# Altium footprint library KF128.PcbLib: 30 footprints (part 1 of 2)
Each footprint in its own frame and in the unit in brackets; x right, y up, seen from the top. Pads: shape width x height; smd on the part's side, far side on the other; paste and mask are expansions set on the pad; w line width, h text height; cw(c..) or ccw(c..) is an arc to the next point about the centre after c.
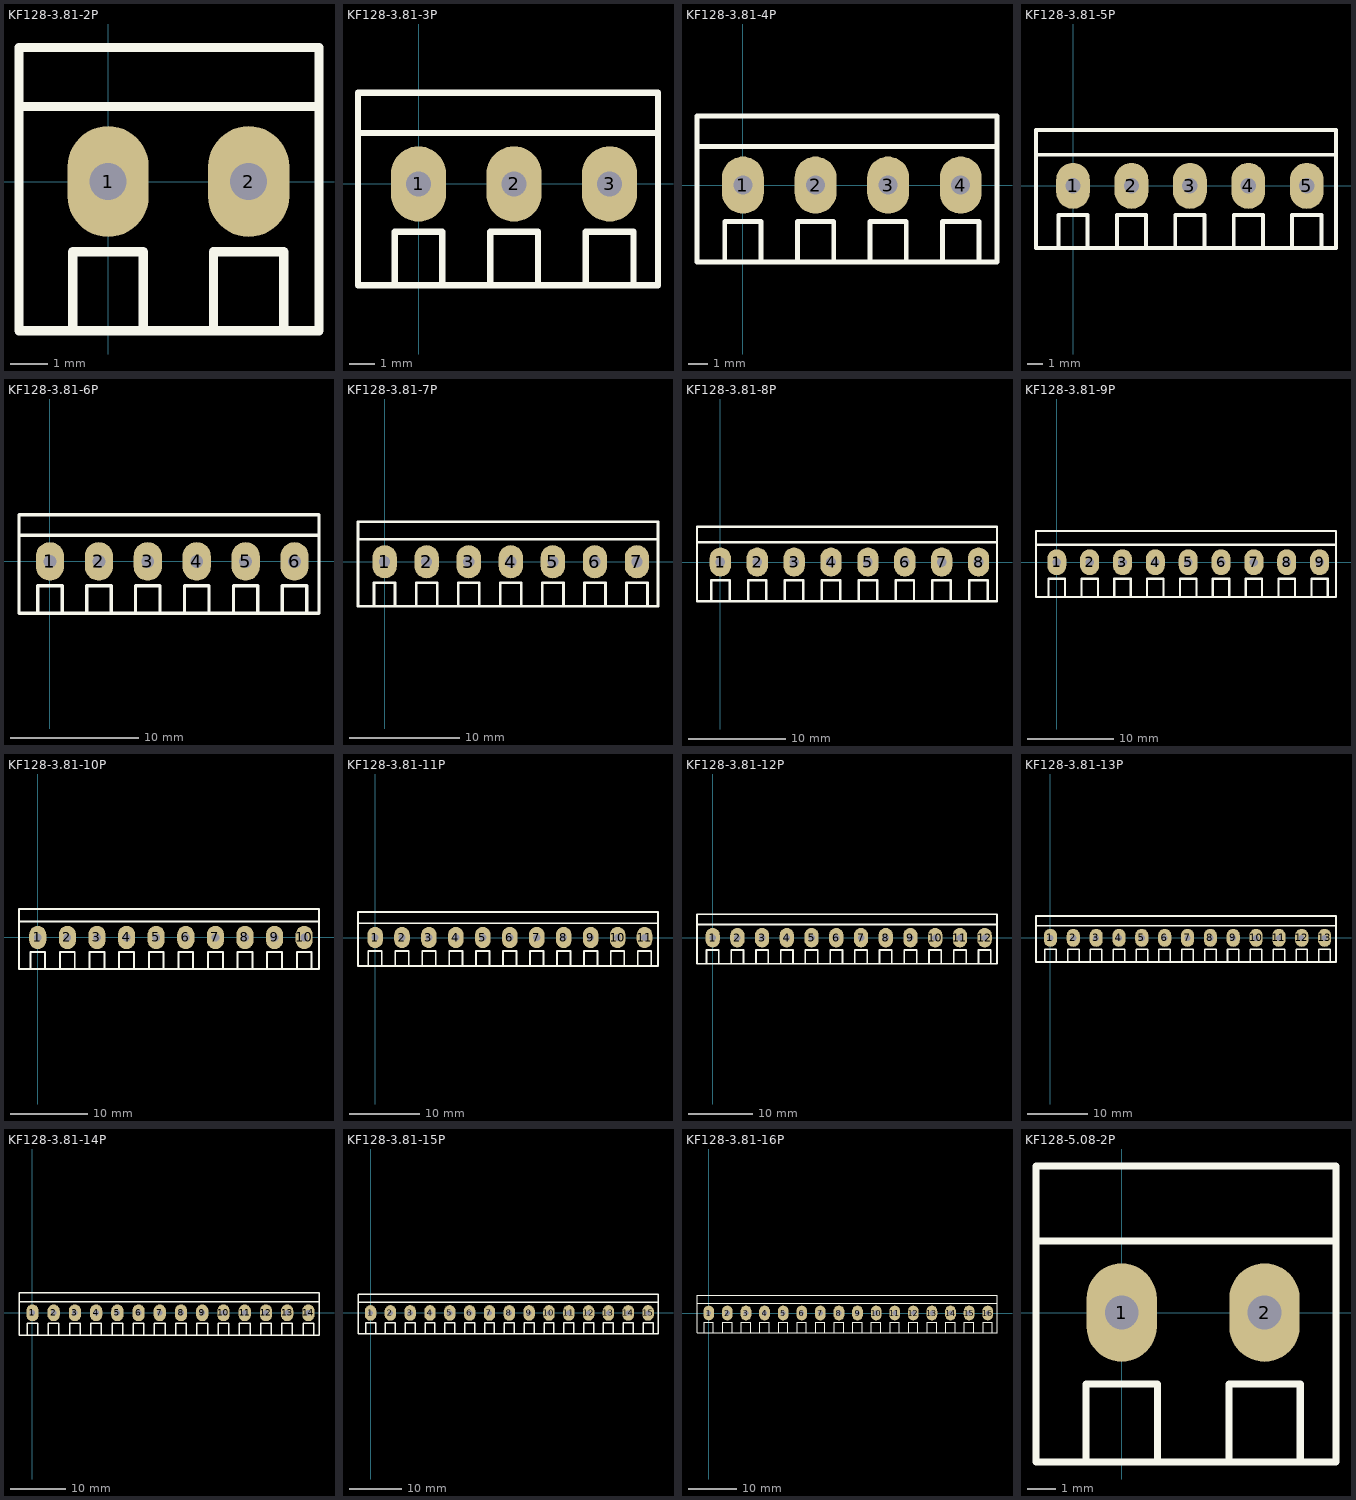
[diagram p0: the footprints below, top view; thin cyan lines are the x and y axes]

## KF128-3.81-2P [mm] "螺钉式接线端子，脚距3.81mm"
pads (2):
  oval 2.2x3 hole 1: 1(0,0) 2(3.81,0)
Top Overlay:
  lines w0.254: -2.413,2.032 5.715,2.032 ; -0.953,-4.039 -0.953,-1.905 0.953,-1.905 0.953,-4.039 ; 2.857,-4.039 2.857,-1.905 4.763,-1.905 4.763,-4.039 ; -2.413,-4.039 -2.413,3.632 5.715,3.632 5.715,-4.039 -2.413,-4.039
3D body "KF128-3.81.STEP": height 8.55, standoff -3.95, extent 1.397,-3.827 5.707,3.573
3D body "KF128-3.81.STEP": height 8.55, standoff -3.95, extent -2.413,-3.827 1.897,3.573

## KF128-3.81-3P [mm] "螺钉式接线端子，脚距3.81mm"
pads (3):
  oval 2.2x3 hole 1: 1(0,0) 2(3.81,0) 3(7.62,0)
Top Overlay:
  lines w0.254: -2.413,2.032 9.55,2.032 ; -0.953,-4.039 -0.953,-1.905 0.953,-1.905 0.953,-4.039 ; 2.857,-4.039 2.857,-1.905 4.763,-1.905 4.763,-4.039 ; 6.667,-4.039 6.667,-1.905 8.572,-1.905 8.572,-4.039 ; -2.413,-4.039 9.55,-4.039 9.55,3.632 -2.413,3.632 -2.413,-4.039
3D body "KF128-3.81.STEP": height 8.55, standoff -3.95, extent 5.207,-3.827 9.517,3.573
3D body "KF128-3.81.STEP": height 8.55, standoff -3.95, extent 1.397,-3.827 5.707,3.573
3D body "KF128-3.81.STEP": height 8.55, standoff -3.95, extent -2.413,-3.827 1.897,3.573

## KF128-3.81-4P [mm] "螺钉式接线端子，脚距3.81mm"
pads (4):
  oval 2.2x3 hole 1: 1(0,0) 2(3.81,0) 3(7.62,0) 4(11.43,0)
Top Overlay:
  lines w0.254: -2.413,2.032 13.335,2.032 ; -0.953,-4.039 -0.953,-1.905 0.953,-1.905 0.953,-4.039 ; 2.857,-4.039 2.857,-1.905 4.763,-1.905 4.763,-4.039 ; 6.667,-4.039 6.667,-1.905 8.572,-1.905 8.572,-4.039 ; 10.477,-4.039 10.477,-1.905 12.383,-1.905 12.383,-4.039 ; -2.413,-4.039 13.335,-4.039 13.335,3.632 -2.413,3.632 -2.413,-4.039
3D body "KF128-3.81.STEP": height 8.55, standoff -3.95, extent -2.413,-3.827 1.897,3.573
3D body "KF128-3.81.STEP": height 8.55, standoff -3.95, extent 1.397,-3.827 5.707,3.573
3D body "KF128-3.81.STEP": height 8.55, standoff -3.95, extent 5.207,-3.827 9.517,3.573
3D body "KF128-3.81.STEP": height 8.55, standoff -3.95, extent 9.017,-3.827 13.327,3.573

## KF128-3.81-5P [mm] "螺钉式接线端子，脚距3.81mm"
pads (5):
  oval 2.2x3 hole 1: 1(0,0) 2(3.81,0) 3(7.62,0) 4(11.43,0) 5(15.24,0)
Top Overlay:
  lines w0.254: -2.413,2.032 17.145,2.032 ; -0.953,-4.039 -0.953,-1.905 0.953,-1.905 0.953,-4.039 ; 2.857,-4.039 2.857,-1.905 4.763,-1.905 4.763,-4.039 ; 6.667,-4.039 6.667,-1.905 8.572,-1.905 8.572,-4.039 ; 10.477,-4.039 10.477,-1.905 12.383,-1.905 12.383,-4.039 ; 14.287,-4.039 14.287,-1.905 16.192,-1.905 16.192,-4.039 ; -2.413,-4.039 -2.413,3.632 17.145,3.632 17.145,-4.039 -2.413,-4.039
Mechanical 15:
  circle w0.05: c7.62,0 r0.35
  lines w0.05: 7.12,0 8.12,0 ; 7.62,-0.5 7.62,0.5
3D body "KF128-3.81.STEP": height 8.55, standoff -3.95, extent 9.017,-3.827 13.327,3.573
3D body "KF128-3.81.STEP": height 8.55, standoff -3.95, extent 12.827,-3.827 17.137,3.573
3D body "KF128-3.81.STEP": height 8.55, standoff -3.95, extent 5.207,-3.827 9.517,3.573
3D body "KF128-3.81.STEP": height 8.55, standoff -3.95, extent 1.397,-3.827 5.707,3.573
3D body "KF128-3.81.STEP": height 8.55, standoff -3.95, extent -2.413,-3.827 1.897,3.573

## KF128-3.81-6P [mm] "螺钉式接线端子，脚距3.81mm"
pads (6):
  oval 2.2x3 hole 1: 1(0,0) 2(3.81,0) 3(7.62,0) 4(11.43,0) 5(15.24,0) 6(19.05,0)
Top Overlay:
  lines w0.254: -2.413,2.032 20.955,2.032 ; -0.953,-4.039 -0.953,-1.905 0.953,-1.905 0.953,-4.039 ; 2.857,-4.039 2.857,-1.905 4.763,-1.905 4.763,-4.039 ; 6.667,-4.039 6.667,-1.905 8.572,-1.905 8.572,-4.039 ; 10.477,-4.039 10.477,-1.905 12.383,-1.905 12.383,-4.039 ; 14.287,-4.039 14.287,-1.905 16.192,-1.905 16.192,-4.039 ; 18.098,-4.039 18.098,-1.905 20.002,-1.905 20.002,-4.039 ; -2.413,-4.039 -2.413,3.632 20.955,3.632 20.955,-4.039 -2.413,-4.039
3D body "KF128-3.81.STEP": height 8.55, standoff -3.95, extent 9.017,-3.827 13.327,3.573
3D body "KF128-3.81.STEP": height 8.55, standoff -3.95, extent 12.827,-3.827 17.137,3.573
3D body "KF128-3.81.STEP": height 8.55, standoff -3.95, extent 16.637,-3.827 20.947,3.573
3D body "KF128-3.81.STEP": height 8.55, standoff -3.95, extent 5.207,-3.827 9.517,3.573
3D body "KF128-3.81.STEP": height 8.55, standoff -3.95, extent 1.397,-3.827 5.707,3.573
3D body "KF128-3.81.STEP": height 8.55, standoff -3.95, extent -2.413,-3.827 1.897,3.573

## KF128-3.81-7P [mm] "螺钉式接线端子，脚距3.81mm"
pads (7):
  oval 2.2x3 hole 1: 1(0,0) 2(3.81,0) 3(7.62,0) 4(11.43,0) 5(15.24,0) 6(19.05,0) 7(22.86,0)
Top Overlay:
  lines w0.254: -2.413,2.032 24.765,2.032 ; -0.953,-4.039 -0.953,-1.905 0.953,-1.905 0.953,-4.039 ; 2.857,-4.039 2.857,-1.905 4.763,-1.905 4.763,-4.039 ; 6.667,-4.039 6.667,-1.905 8.572,-1.905 8.572,-4.039 ; 10.477,-4.039 10.477,-1.905 12.383,-1.905 12.383,-4.039 ; 14.287,-4.039 14.287,-1.905 16.192,-1.905 16.192,-4.039 ; 18.098,-4.039 18.098,-1.905 20.002,-1.905 20.002,-4.039 ; 21.907,-4.039 21.907,-1.905 23.812,-1.905 23.812,-4.039 ; -2.413,-4.039 -2.413,3.632 24.765,3.632 24.765,-4.039 -2.413,-4.039
3D body "KF128-3.81.STEP": height 8.55, standoff -3.95, extent -2.413,-3.827 1.897,3.573
3D body "KF128-3.81.STEP": height 8.55, standoff -3.95, extent 1.397,-3.827 5.707,3.573
3D body "KF128-3.81.STEP": height 8.55, standoff -3.95, extent 5.207,-3.827 9.517,3.573
3D body "KF128-3.81.STEP": height 8.55, standoff -3.95, extent 16.637,-3.827 20.947,3.573
3D body "KF128-3.81.STEP": height 8.55, standoff -3.95, extent 12.827,-3.827 17.137,3.573
3D body "KF128-3.81.STEP": height 8.55, standoff -3.95, extent 9.017,-3.827 13.327,3.573
3D body "KF128-3.81.STEP": height 8.55, standoff -3.95, extent 20.447,-3.827 24.757,3.573

## KF128-3.81-8P [mm] "螺钉式接线端子，脚距3.81mm"
pads (8):
  oval 2.2x3 hole 1: 1(0,0) 2(3.81,0) 3(7.62,0) 4(11.43,0) 5(15.24,0) 6(19.05,0) 7(22.86,0) 8(26.67,0)
Top Overlay:
  lines w0.254: -2.413,2.032 28.575,2.032 ; -0.953,-4.039 -0.953,-1.905 0.953,-1.905 0.953,-4.039 ; 2.857,-4.039 2.857,-1.905 4.763,-1.905 4.763,-4.039 ; 6.667,-4.039 6.667,-1.905 8.572,-1.905 8.572,-4.039 ; 10.477,-4.039 10.477,-1.905 12.383,-1.905 12.383,-4.039 ; 14.287,-4.039 14.287,-1.905 16.192,-1.905 16.192,-4.039 ; 18.098,-4.039 18.098,-1.905 20.002,-1.905 20.002,-4.039 ; 21.907,-4.039 21.907,-1.905 23.812,-1.905 23.812,-4.039 ; 25.717,-4.039 25.717,-1.905 27.622,-1.905 27.622,-4.039 ; -2.413,-4.039 -2.413,3.632 28.575,3.632 28.575,-4.039 -2.413,-4.039
3D body "KF128-3.81.STEP": height 8.55, standoff -3.95, extent -2.413,-3.827 1.897,3.573
3D body "KF128-3.81.STEP": height 8.55, standoff -3.95, extent 1.397,-3.827 5.707,3.573
3D body "KF128-3.81.STEP": height 8.55, standoff -3.95, extent 5.207,-3.827 9.517,3.573
3D body "KF128-3.81.STEP": height 8.55, standoff -3.95, extent 16.637,-3.827 20.947,3.573
3D body "KF128-3.81.STEP": height 8.55, standoff -3.95, extent 12.827,-3.827 17.137,3.573
3D body "KF128-3.81.STEP": height 8.55, standoff -3.95, extent 9.017,-3.827 13.327,3.573
3D body "KF128-3.81.STEP": height 8.55, standoff -3.95, extent 24.257,-3.827 28.567,3.573
3D body "KF128-3.81.STEP": height 8.55, standoff -3.95, extent 20.447,-3.827 24.757,3.573

## KF128-3.81-9P [mm] "螺钉式接线端子，脚距3.81mm"
pads (9):
  oval 2.2x3 hole 1: 1(0,0) 2(3.81,0) 3(7.62,0) 4(11.43,0) 5(15.24,0) 6(19.05,0) 7(22.86,0) 8(26.67,0) 9(30.48,0)
Top Overlay:
  lines w0.254: -2.413,2.032 32.385,2.032 ; -0.953,-4.039 -0.953,-1.905 0.953,-1.905 0.953,-4.039 ; 2.857,-4.039 2.857,-1.905 4.763,-1.905 4.763,-4.039 ; 6.667,-4.039 6.667,-1.905 8.572,-1.905 8.572,-4.039 ; 10.477,-4.039 10.477,-1.905 12.383,-1.905 12.383,-4.039 ; 14.287,-4.039 14.287,-1.905 16.192,-1.905 16.192,-4.039 ; 18.098,-4.039 18.098,-1.905 20.002,-1.905 20.002,-4.039 ; 21.907,-4.039 21.907,-1.905 23.812,-1.905 23.812,-4.039 ; 25.717,-4.039 25.717,-1.905 27.622,-1.905 27.622,-4.039 ; 29.527,-4.039 29.527,-1.905 31.432,-1.905 31.432,-4.039 ; -2.413,-4.039 32.385,-4.039 32.385,3.632 -2.413,3.632 -2.413,-4.039
3D body "KF128-3.81.STEP": height 8.55, standoff -3.95, extent -2.413,-3.827 1.897,3.573
3D body "KF128-3.81.STEP": height 8.55, standoff -3.95, extent 1.397,-3.827 5.707,3.573
3D body "KF128-3.81.STEP": height 8.55, standoff -3.95, extent 5.207,-3.827 9.517,3.573
3D body "KF128-3.81.STEP": height 8.55, standoff -3.95, extent 16.637,-3.827 20.947,3.573
3D body "KF128-3.81.STEP": height 8.55, standoff -3.95, extent 12.827,-3.827 17.137,3.573
3D body "KF128-3.81.STEP": height 8.55, standoff -3.95, extent 9.017,-3.827 13.327,3.573
3D body "KF128-3.81.STEP": height 8.55, standoff -3.95, extent 28.067,-3.827 32.377,3.573
3D body "KF128-3.81.STEP": height 8.55, standoff -3.95, extent 24.257,-3.827 28.567,3.573
3D body "KF128-3.81.STEP": height 8.55, standoff -3.95, extent 20.447,-3.827 24.757,3.573

## KF128-3.81-10P [mm] "螺钉式接线端子，脚距3.81mm"
pads (10):
  oval 2.2x3 hole 1: 1(0,0) 2(3.81,0) 3(7.62,0) 4(11.43,0) 5(15.24,0) 6(19.05,0) 7(22.86,0) 8(26.67,0) 9(30.48,0) 10(34.29,0)
Top Overlay:
  lines w0.254: -2.413,2.032 36.195,2.032 ; -0.953,-4.039 -0.953,-1.905 0.953,-1.905 0.953,-4.039 ; 2.857,-4.039 2.857,-1.905 4.763,-1.905 4.763,-4.039 ; 6.667,-4.039 6.667,-1.905 8.572,-1.905 8.572,-4.039 ; 10.477,-4.039 10.477,-1.905 12.383,-1.905 12.383,-4.039 ; 14.287,-4.039 14.287,-1.905 16.192,-1.905 16.192,-4.039 ; 18.098,-4.039 18.098,-1.905 20.002,-1.905 20.002,-4.039 ; 21.907,-4.039 21.907,-1.905 23.812,-1.905 23.812,-4.039 ; 25.717,-4.039 25.717,-1.905 27.622,-1.905 27.622,-4.039 ; 29.527,-4.039 29.527,-1.905 31.432,-1.905 31.432,-4.039 ; 33.337,-4.039 33.337,-1.905 35.242,-1.905 35.242,-4.039 ; -2.413,-4.039 36.195,-4.039 36.195,3.632 -2.413,3.632 -2.413,-4.039
3D body "KF128-3.81.STEP": height 8.55, standoff -3.95, extent 31.877,-3.827 36.187,3.573
3D body "KF128-3.81.STEP": height 8.55, standoff -3.95, extent 20.447,-3.827 24.757,3.573
3D body "KF128-3.81.STEP": height 8.55, standoff -3.95, extent 24.257,-3.827 28.567,3.573
3D body "KF128-3.81.STEP": height 8.55, standoff -3.95, extent 28.067,-3.827 32.377,3.573
3D body "KF128-3.81.STEP": height 8.55, standoff -3.95, extent 9.017,-3.827 13.327,3.573
3D body "KF128-3.81.STEP": height 8.55, standoff -3.95, extent 12.827,-3.827 17.137,3.573
3D body "KF128-3.81.STEP": height 8.55, standoff -3.95, extent 16.637,-3.827 20.947,3.573
3D body "KF128-3.81.STEP": height 8.55, standoff -3.95, extent 5.207,-3.827 9.517,3.573
3D body "KF128-3.81.STEP": height 8.55, standoff -3.95, extent 1.397,-3.827 5.707,3.573
3D body "KF128-3.81.STEP": height 8.55, standoff -3.95, extent -2.413,-3.827 1.897,3.573

## KF128-3.81-11P [mm] "螺钉式接线端子，脚距3.81mm"
pads (11):
  oval 2.2x3 hole 1: 1(0,0) 2(3.81,0) 3(7.62,0) 4(11.43,0) 5(15.24,0) 6(19.05,0) 7(22.86,0) 8(26.67,0) 9(30.48,0) 10(34.29,0) 11(38.1,0)
Top Overlay:
  lines w0.254: -2.413,2.032 40.005,2.032 ; -0.953,-4.039 -0.953,-1.905 0.953,-1.905 0.953,-4.039 ; 2.857,-4.039 2.857,-1.905 4.763,-1.905 4.763,-4.039 ; 6.667,-4.039 6.667,-1.905 8.572,-1.905 8.572,-4.039 ; 10.477,-4.039 10.477,-1.905 12.383,-1.905 12.383,-4.039 ; 14.287,-4.039 14.287,-1.905 16.192,-1.905 16.192,-4.039 ; 18.098,-4.039 18.098,-1.905 20.002,-1.905 20.002,-4.039 ; 21.907,-4.039 21.907,-1.905 23.812,-1.905 23.812,-4.039 ; 25.717,-4.039 25.717,-1.905 27.622,-1.905 27.622,-4.039 ; 29.527,-4.039 29.527,-1.905 31.432,-1.905 31.432,-4.039 ; 33.337,-4.039 33.337,-1.905 35.242,-1.905 35.242,-4.039 ; 37.148,-4.039 37.148,-1.905 39.052,-1.905 39.052,-4.039 ; -2.413,-4.039 -2.413,3.632 40.005,3.632 40.005,-4.039 -2.413,-4.039
3D body "KF128-3.81.STEP": height 8.55, standoff -3.95, extent -2.413,-3.827 1.897,3.573
3D body "KF128-3.81.STEP": height 8.55, standoff -3.95, extent 1.397,-3.827 5.707,3.573
3D body "KF128-3.81.STEP": height 8.55, standoff -3.95, extent 5.207,-3.827 9.517,3.573
3D body "KF128-3.81.STEP": height 8.55, standoff -3.95, extent 16.637,-3.827 20.947,3.573
3D body "KF128-3.81.STEP": height 8.55, standoff -3.95, extent 12.827,-3.827 17.137,3.573
3D body "KF128-3.81.STEP": height 8.55, standoff -3.95, extent 9.017,-3.827 13.327,3.573
3D body "KF128-3.81.STEP": height 8.55, standoff -3.95, extent 28.067,-3.827 32.377,3.573
3D body "KF128-3.81.STEP": height 8.55, standoff -3.95, extent 24.257,-3.827 28.567,3.573
3D body "KF128-3.81.STEP": height 8.55, standoff -3.95, extent 20.447,-3.827 24.757,3.573
3D body "KF128-3.81.STEP": height 8.55, standoff -3.95, extent 35.687,-3.827 39.997,3.573
3D body "KF128-3.81.STEP": height 8.55, standoff -3.95, extent 31.877,-3.827 36.187,3.573

## KF128-3.81-12P [mm] "螺钉式接线端子，脚距3.81mm"
pads (12):
  oval 2.2x3 hole 1: 1(0,0) 2(3.81,0) 3(7.62,0) 4(11.43,0) 5(15.24,0) 6(19.05,0) 7(22.86,0) 8(26.67,0) 9(30.48,0) 10(34.29,0) 11(38.1,0) 12(41.91,0)
Top Overlay:
  lines w0.254: -2.413,2.032 43.815,2.032 ; -0.953,-4.039 -0.953,-1.905 0.953,-1.905 0.953,-4.039 ; 2.857,-4.039 2.857,-1.905 4.763,-1.905 4.763,-4.039 ; 6.667,-4.039 6.667,-1.905 8.572,-1.905 8.572,-4.039 ; 10.477,-4.039 10.477,-1.905 12.383,-1.905 12.383,-4.039 ; 14.287,-4.039 14.287,-1.905 16.192,-1.905 16.192,-4.039 ; 18.098,-4.039 18.098,-1.905 20.002,-1.905 20.002,-4.039 ; 21.907,-4.039 21.907,-1.905 23.812,-1.905 23.812,-4.039 ; 25.717,-4.039 25.717,-1.905 27.622,-1.905 27.622,-4.039 ; 29.527,-4.039 29.527,-1.905 31.432,-1.905 31.432,-4.039 ; 33.337,-4.039 33.337,-1.905 35.242,-1.905 35.242,-4.039 ; 37.148,-4.039 37.148,-1.905 39.052,-1.905 39.052,-4.039 ; 40.957,-4.039 40.957,-1.905 42.862,-1.905 42.862,-4.039 ; -2.413,-4.039 43.815,-4.039 43.815,3.632 -2.413,3.632 -2.413,-4.039
3D body "KF128-3.81.STEP": height 8.55, standoff -3.95, extent -2.413,-3.827 1.897,3.573
3D body "KF128-3.81.STEP": height 8.55, standoff -3.95, extent 1.397,-3.827 5.707,3.573
3D body "KF128-3.81.STEP": height 8.55, standoff -3.95, extent 5.207,-3.827 9.517,3.573
3D body "KF128-3.81.STEP": height 8.55, standoff -3.95, extent 16.637,-3.827 20.947,3.573
3D body "KF128-3.81.STEP": height 8.55, standoff -3.95, extent 12.827,-3.827 17.137,3.573
3D body "KF128-3.81.STEP": height 8.55, standoff -3.95, extent 9.017,-3.827 13.327,3.573
3D body "KF128-3.81.STEP": height 8.55, standoff -3.95, extent 28.067,-3.827 32.377,3.573
3D body "KF128-3.81.STEP": height 8.55, standoff -3.95, extent 24.257,-3.827 28.567,3.573
3D body "KF128-3.81.STEP": height 8.55, standoff -3.95, extent 20.447,-3.827 24.757,3.573
3D body "KF128-3.81.STEP": height 8.55, standoff -3.95, extent 39.497,-3.827 43.807,3.573
3D body "KF128-3.81.STEP": height 8.55, standoff -3.95, extent 35.687,-3.827 39.997,3.573
3D body "KF128-3.81.STEP": height 8.55, standoff -3.95, extent 31.877,-3.827 36.187,3.573

## KF128-3.81-13P [mm] "螺钉式接线端子，脚距3.81mm"
pads (13):
  oval 2.2x3 hole 1: 1(0,0) 2(3.81,0) 3(7.62,0) 4(11.43,0) 5(15.24,0) 6(19.05,0) 7(22.86,0) 8(26.67,0) 9(30.48,0) 10(34.29,0) 11(38.1,0) 12(41.91,0) 13(45.72,0)
Top Overlay:
  lines w0.254: -2.413,2.032 47.625,2.032 ; -0.953,-4.039 -0.953,-1.905 0.953,-1.905 0.953,-4.039 ; 2.857,-4.039 2.857,-1.905 4.763,-1.905 4.763,-4.039 ; 6.667,-4.039 6.667,-1.905 8.572,-1.905 8.572,-4.039 ; 10.477,-4.039 10.477,-1.905 12.383,-1.905 12.383,-4.039 ; 14.287,-4.039 14.287,-1.905 16.192,-1.905 16.192,-4.039 ; 18.098,-4.039 18.098,-1.905 20.002,-1.905 20.002,-4.039 ; 21.907,-4.039 21.907,-1.905 23.812,-1.905 23.812,-4.039 ; 25.717,-4.039 25.717,-1.905 27.622,-1.905 27.622,-4.039 ; 29.527,-4.039 29.527,-1.905 31.432,-1.905 31.432,-4.039 ; 33.337,-4.039 33.337,-1.905 35.242,-1.905 35.242,-4.039 ; 37.148,-4.039 37.148,-1.905 39.052,-1.905 39.052,-4.039 ; 40.957,-4.039 40.957,-1.905 42.862,-1.905 42.862,-4.039 ; 44.767,-4.039 44.767,-1.905 46.672,-1.905 46.672,-4.039 ; -2.413,-4.039 47.625,-4.039 47.625,3.632 -2.413,3.632 -2.413,-4.039
3D body "KF128-3.81.STEP": height 8.55, standoff -3.95, extent 43.307,-3.827 47.617,3.573
3D body "KF128-3.81.STEP": height 8.55, standoff -3.95, extent 31.877,-3.827 36.187,3.573
3D body "KF128-3.81.STEP": height 8.55, standoff -3.95, extent 35.687,-3.827 39.997,3.573
3D body "KF128-3.81.STEP": height 8.55, standoff -3.95, extent 39.497,-3.827 43.807,3.573
3D body "KF128-3.81.STEP": height 8.55, standoff -3.95, extent 20.447,-3.827 24.757,3.573
3D body "KF128-3.81.STEP": height 8.55, standoff -3.95, extent 24.257,-3.827 28.567,3.573
3D body "KF128-3.81.STEP": height 8.55, standoff -3.95, extent 28.067,-3.827 32.377,3.573
3D body "KF128-3.81.STEP": height 8.55, standoff -3.95, extent 9.017,-3.827 13.327,3.573
3D body "KF128-3.81.STEP": height 8.55, standoff -3.95, extent 12.827,-3.827 17.137,3.573
3D body "KF128-3.81.STEP": height 8.55, standoff -3.95, extent 16.637,-3.827 20.947,3.573
3D body "KF128-3.81.STEP": height 8.55, standoff -3.95, extent 5.207,-3.827 9.517,3.573
3D body "KF128-3.81.STEP": height 8.55, standoff -3.95, extent 1.397,-3.827 5.707,3.573
3D body "KF128-3.81.STEP": height 8.55, standoff -3.95, extent -2.413,-3.827 1.897,3.573

## KF128-3.81-14P [mm] "螺钉式接线端子，脚距3.81mm"
pads (14):
  oval 2.2x3 hole 1: 1(0,0) 2(3.81,0) 3(7.62,0) 4(11.43,0) 5(15.24,0) 6(19.05,0) 7(22.86,0) 8(26.67,0) 9(30.48,0) 10(34.29,0) 11(38.1,0) 12(41.91,0) 13(45.72,0) 14(49.53,0)
Top Overlay:
  lines w0.254: -2.413,2.032 51.435,2.032 ; -0.953,-4.039 -0.953,-1.905 0.953,-1.905 0.953,-4.039 ; 2.857,-4.039 2.857,-1.905 4.763,-1.905 4.763,-4.039 ; 6.667,-4.039 6.667,-1.905 8.572,-1.905 8.572,-4.039 ; 10.477,-4.039 10.477,-1.905 12.383,-1.905 12.383,-4.039 ; 14.287,-4.039 14.287,-1.905 16.192,-1.905 16.192,-4.039 ; 18.098,-4.039 18.098,-1.905 20.002,-1.905 20.002,-4.039 ; 21.907,-4.039 21.907,-1.905 23.812,-1.905 23.812,-4.039 ; 25.717,-4.039 25.717,-1.905 27.622,-1.905 27.622,-4.039 ; 29.527,-4.039 29.527,-1.905 31.432,-1.905 31.432,-4.039 ; 33.337,-4.039 33.337,-1.905 35.242,-1.905 35.242,-4.039 ; 37.148,-4.039 37.148,-1.905 39.052,-1.905 39.052,-4.039 ; 40.957,-4.039 40.957,-1.905 42.862,-1.905 42.862,-4.039 ; 44.767,-4.039 44.767,-1.905 46.672,-1.905 46.672,-4.039 ; 48.578,-4.039 48.578,-1.905 50.482,-1.905 50.482,-4.039 ; -2.413,-4.039 51.435,-4.039 51.435,3.632 -2.413,3.632 -2.413,-4.039
3D body "KF128-3.81.STEP": height 8.55, standoff -3.95, extent -2.413,-3.827 1.897,3.573
3D body "KF128-3.81.STEP": height 8.55, standoff -3.95, extent 1.397,-3.827 5.707,3.573
3D body "KF128-3.81.STEP": height 8.55, standoff -3.95, extent 5.207,-3.827 9.517,3.573
3D body "KF128-3.81.STEP": height 8.55, standoff -3.95, extent 16.637,-3.827 20.947,3.573
3D body "KF128-3.81.STEP": height 8.55, standoff -3.95, extent 12.827,-3.827 17.137,3.573
3D body "KF128-3.81.STEP": height 8.55, standoff -3.95, extent 9.017,-3.827 13.327,3.573
3D body "KF128-3.81.STEP": height 8.55, standoff -3.95, extent 28.067,-3.827 32.377,3.573
3D body "KF128-3.81.STEP": height 8.55, standoff -3.95, extent 24.257,-3.827 28.567,3.573
3D body "KF128-3.81.STEP": height 8.55, standoff -3.95, extent 20.447,-3.827 24.757,3.573
3D body "KF128-3.81.STEP": height 8.55, standoff -3.95, extent 39.497,-3.827 43.807,3.573
3D body "KF128-3.81.STEP": height 8.55, standoff -3.95, extent 35.687,-3.827 39.997,3.573
3D body "KF128-3.81.STEP": height 8.55, standoff -3.95, extent 31.877,-3.827 36.187,3.573
3D body "KF128-3.81.STEP": height 8.55, standoff -3.95, extent 47.117,-3.827 51.427,3.573
3D body "KF128-3.81.STEP": height 8.55, standoff -3.95, extent 43.307,-3.827 47.617,3.573

## KF128-3.81-15P [mm] "螺钉式接线端子，脚距3.81mm"
pads (15):
  oval 2.2x3 hole 1: 1(0,0) 2(3.81,0) 3(7.62,0) 4(11.43,0) 5(15.24,0) 6(19.05,0) 7(22.86,0) 8(26.67,0) 9(30.48,0) 10(34.29,0) 11(38.1,0) 12(41.91,0) 13(45.72,0) 14(49.53,0) 15(53.34,0)
Top Overlay:
  lines w0.254: -2.413,2.032 55.245,2.032 ; -0.953,-4.039 -0.953,-1.905 0.953,-1.905 0.953,-4.039 ; 2.857,-4.039 2.857,-1.905 4.763,-1.905 4.763,-4.039 ; 6.667,-4.039 6.667,-1.905 8.572,-1.905 8.572,-4.039 ; 10.477,-4.039 10.477,-1.905 12.383,-1.905 12.383,-4.039 ; 14.287,-4.039 14.287,-1.905 16.192,-1.905 16.192,-4.039 ; 18.098,-4.039 18.098,-1.905 20.002,-1.905 20.002,-4.039 ; 21.907,-4.039 21.907,-1.905 23.812,-1.905 23.812,-4.039 ; 25.717,-4.039 25.717,-1.905 27.622,-1.905 27.622,-4.039 ; 29.527,-4.039 29.527,-1.905 31.432,-1.905 31.432,-4.039 ; 33.337,-4.039 33.337,-1.905 35.242,-1.905 35.242,-4.039 ; 37.148,-4.039 37.148,-1.905 39.052,-1.905 39.052,-4.039 ; 40.957,-4.039 40.957,-1.905 42.862,-1.905 42.862,-4.039 ; 44.767,-4.039 44.767,-1.905 46.672,-1.905 46.672,-4.039 ; 48.578,-4.039 48.578,-1.905 50.482,-1.905 50.482,-4.039 ; 52.387,-4.039 52.387,-1.905 54.292,-1.905 54.292,-4.039 ; -2.413,-4.039 -2.413,3.632 55.245,3.632 55.245,-4.039 -2.413,-4.039
3D body "KF128-3.81.STEP": height 8.55, standoff -3.95, extent -2.413,-3.827 1.897,3.573
3D body "KF128-3.81.STEP": height 8.55, standoff -3.95, extent 1.397,-3.827 5.707,3.573
3D body "KF128-3.81.STEP": height 8.55, standoff -3.95, extent 5.207,-3.827 9.517,3.573
3D body "KF128-3.81.STEP": height 8.55, standoff -3.95, extent 16.637,-3.827 20.947,3.573
3D body "KF128-3.81.STEP": height 8.55, standoff -3.95, extent 12.827,-3.827 17.137,3.573
3D body "KF128-3.81.STEP": height 8.55, standoff -3.95, extent 9.017,-3.827 13.327,3.573
3D body "KF128-3.81.STEP": height 8.55, standoff -3.95, extent 28.067,-3.827 32.377,3.573
3D body "KF128-3.81.STEP": height 8.55, standoff -3.95, extent 24.257,-3.827 28.567,3.573
3D body "KF128-3.81.STEP": height 8.55, standoff -3.95, extent 20.447,-3.827 24.757,3.573
3D body "KF128-3.81.STEP": height 8.55, standoff -3.95, extent 39.497,-3.827 43.807,3.573
3D body "KF128-3.81.STEP": height 8.55, standoff -3.95, extent 35.687,-3.827 39.997,3.573
3D body "KF128-3.81.STEP": height 8.55, standoff -3.95, extent 31.877,-3.827 36.187,3.573
3D body "KF128-3.81.STEP": height 8.55, standoff -3.95, extent 50.927,-3.827 55.237,3.573
3D body "KF128-3.81.STEP": height 8.55, standoff -3.95, extent 47.117,-3.827 51.427,3.573
3D body "KF128-3.81.STEP": height 8.55, standoff -3.95, extent 43.307,-3.827 47.617,3.573

## KF128-3.81-16P [mm] "螺钉式接线端子，脚距3.81mm"
pads (16):
  oval 2.2x3 hole 1: 1(0,0) 2(3.81,0) 3(7.62,0) 4(11.43,0) 5(15.24,0) 6(19.05,0) 7(22.86,0) 8(26.67,0) 9(30.48,0) 10(34.29,0) 11(38.1,0) 12(41.91,0) 13(45.72,0) 14(49.53,0) 15(53.34,0) 16(57.15,0)
Top Overlay:
  lines w0.254: -2.413,2.032 59.055,2.032 ; -0.953,-4.039 -0.953,-1.905 0.953,-1.905 0.953,-4.039 ; 2.857,-4.039 2.857,-1.905 4.763,-1.905 4.763,-4.039 ; 6.667,-4.039 6.667,-1.905 8.572,-1.905 8.572,-4.039 ; 10.477,-4.039 10.477,-1.905 12.383,-1.905 12.383,-4.039 ; 14.287,-4.039 14.287,-1.905 16.192,-1.905 16.192,-4.039 ; 18.098,-4.039 18.098,-1.905 20.002,-1.905 20.002,-4.039 ; 21.907,-4.039 21.907,-1.905 23.812,-1.905 23.812,-4.039 ; 25.717,-4.039 25.717,-1.905 27.622,-1.905 27.622,-4.039 ; 29.527,-4.039 29.527,-1.905 31.432,-1.905 31.432,-4.039 ; 33.337,-4.039 33.337,-1.905 35.242,-1.905 35.242,-4.039 ; 37.148,-4.039 37.148,-1.905 39.052,-1.905 39.052,-4.039 ; 40.957,-4.039 40.957,-1.905 42.862,-1.905 42.862,-4.039 ; 44.767,-4.039 44.767,-1.905 46.672,-1.905 46.672,-4.039 ; 48.578,-4.039 48.578,-1.905 50.482,-1.905 50.482,-4.039 ; 52.387,-4.039 52.387,-1.905 54.292,-1.905 54.292,-4.039 ; 56.197,-4.039 56.197,-1.905 58.102,-1.905 58.102,-4.039 ; -2.413,-4.039 59.055,-4.039 59.055,3.632 -2.413,3.632 -2.413,-4.039
3D body "KF128-3.81.STEP": height 8.55, standoff -3.95, extent -2.413,-3.827 1.897,3.573
3D body "KF128-3.81.STEP": height 8.55, standoff -3.95, extent 1.397,-3.827 5.707,3.573
3D body "KF128-3.81.STEP": height 8.55, standoff -3.95, extent 5.207,-3.827 9.517,3.573
3D body "KF128-3.81.STEP": height 8.55, standoff -3.95, extent 16.637,-3.827 20.947,3.573
3D body "KF128-3.81.STEP": height 8.55, standoff -3.95, extent 12.827,-3.827 17.137,3.573
3D body "KF128-3.81.STEP": height 8.55, standoff -3.95, extent 9.017,-3.827 13.327,3.573
3D body "KF128-3.81.STEP": height 8.55, standoff -3.95, extent 28.067,-3.827 32.377,3.573
3D body "KF128-3.81.STEP": height 8.55, standoff -3.95, extent 24.257,-3.827 28.567,3.573
3D body "KF128-3.81.STEP": height 8.55, standoff -3.95, extent 20.447,-3.827 24.757,3.573
3D body "KF128-3.81.STEP": height 8.55, standoff -3.95, extent 39.497,-3.827 43.807,3.573
3D body "KF128-3.81.STEP": height 8.55, standoff -3.95, extent 35.687,-3.827 39.997,3.573
3D body "KF128-3.81.STEP": height 8.55, standoff -3.95, extent 31.877,-3.827 36.187,3.573
3D body "KF128-3.81.STEP": height 8.55, standoff -3.95, extent 50.927,-3.827 55.237,3.573
3D body "KF128-3.81.STEP": height 8.55, standoff -3.95, extent 47.117,-3.827 51.427,3.573
3D body "KF128-3.81.STEP": height 8.55, standoff -3.95, extent 43.307,-3.827 47.617,3.573
3D body "KF128-3.81.STEP": height 8.55, standoff -3.95, extent 54.737,-3.827 59.047,3.573

## KF128-5.08-2P [mm] "螺钉式接线端子，脚距5.08mm"
pads (2):
  oval 2.5x3.5 hole 1.2: 1(0,0) 2(5.08,0)
Top Overlay:
  lines w0.254: -3.048,2.54 7.62,2.54 ; -1.27,-5.309 -1.27,-2.54 1.27,-2.54 1.27,-5.309 ; 3.81,-5.309 3.81,-2.54 6.35,-2.54 6.35,-5.309 ; -3.048,-5.309 -3.048,5.207 7.62,5.207 7.62,-5.309 -3.048,-5.309
3D body "KF128-5.08-.STEP": height 14.15, standoff -3.95, extent -3.048,-5.377 2.532,5.123
3D body "KF128-5.08-.STEP": height 14.15, standoff -3.95, extent 2.032,-5.377 7.612,5.123